# Altium schematic symbol library SCH - AMP AUDIO - ANALOG SSM2377ACBZ-R7.SchLib: 1 symbol
Pins are listed as number, name and electrical type; pins without a type are passive.

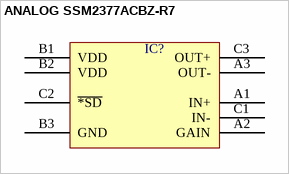
[diagram p0: symbol ANALOG SSM2377ACBZ-R7]

## ANALOG SSM2377ACBZ-R7
designator IC?  (value not drawn)
pins: A1 IN+, A2 GAIN, A3 OUT-, B1 VDD, B2 VDD, B3 GND, C1 IN-, C2 ~{*SD}, C3 OUT+